# Altium footprint library CAPAR500W50L730T250H650.PcbLib: 1 footprints
Each footprint in its own frame and in the unit in brackets; x right, y up, seen from the top. Pads: shape width x height; smd on the part's side, far side on the other; paste and mask are expansions set on the pad; w line width, h text height; cw(c..) or ccw(c..) is an arc to the next point about the centre after c.
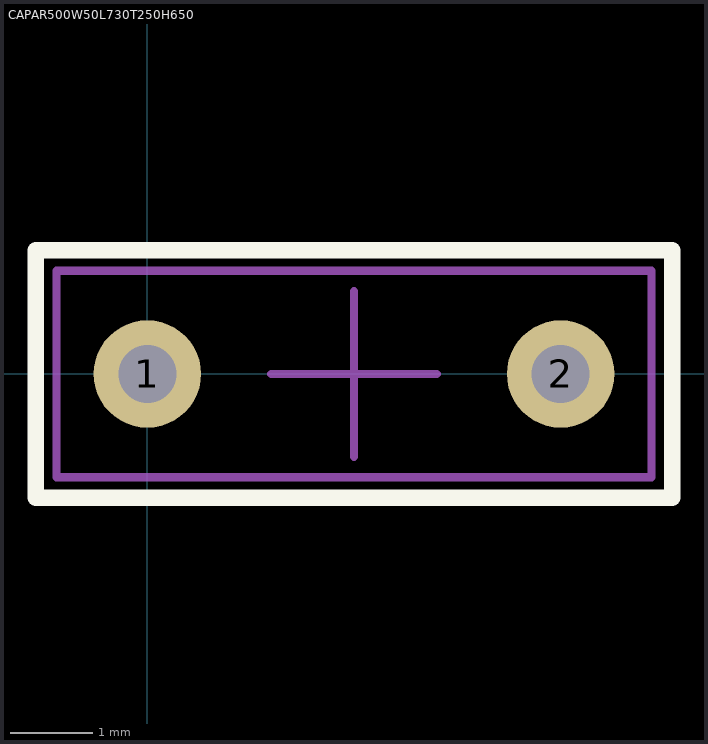
[diagram p0: the footprint, top view; thin cyan lines are the x and y axes]

## CAPAR500W50L730T250H650 [mm] "Lead Spacing=5.0mm, Lead Width=0.5mm, Body Length=7.3mm, Body thickness=2.5mm, Body Height=6.5mm"
pads (2):
  round 1.3 hole 0.7: 1(0,0) 2(5,0)
Top Overlay:
  lines w0.2: -1.35,-1.5 6.35,-1.5 6.35,1.5 -1.35,1.5 -1.35,-1.5
Mechanical 13:
  lines w0.1: -1.1,-1.25 6.1,-1.25 6.1,1.25 -1.1,1.25 -1.1,-1.25
Mechanical 15:
  lines w0.1: 1.5,0 3.5,0 ; 2.5,-1 2.5,1 ; -1.35,-1.5 -1.35,1.5 6.35,1.5 6.35,-1.5 -1.35,-1.5
3D body "User Library-B32529-2_5X6_5X7_2.STEP": height 6.5, standoff -3, extent -1.1,-1.25 6.1,1.25